# EAGLE library part ITG-3200 (library Sensor)
Digital-output, 3-axis MEMS gyro IC Manufacturer's datasheet <https://www.invensense.com/wp-content/uploads/2015/02/ITG-3200-Datasheet.pdf>
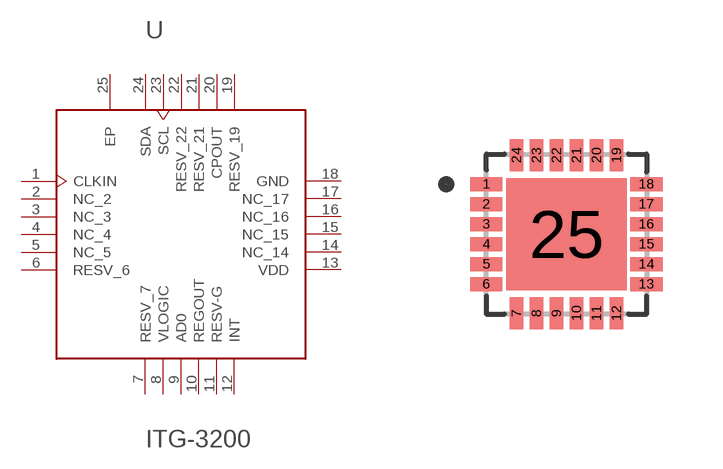
[diagram p5: symbol with the pads of QFN-24; footprint QFN-24]

Designator prefix U

## ITG-3200 (CREATED_BY: PCBLayout.com; MPN: ITG-3200; PACKAGE: QFN-24)  [QFN-24]
1  CLKIN  in
2  NC_2  pas
3  NC_3  pas
4  NC_4  pas
5  NC_5  pas
6  RESV_6  pas
7  RESV_7
8  VLOGIC
9  AD0  pas
10  REGOUT  pas
11  RESV-G  pas
12  INT  out
13  VDD  pwr
14  NC_14  pas
15  NC_15  pas
16  NC_16  pas
17  NC_17  pas
18  GND  pwr
19  RESV_19  pas
20  CPOUT  pas
21  RESV_21  pas
22  RESV_22  pas
23  SCL  pas
24  SDA  pas
25  EP  pwr

## Footprint QFN-24 (pad centres in mm)
smd 0.8 x 0.35: 1 -2,1.25; 2 -2,0.75; 3 -2,0.25; 4 -2,-0.25; 5 -2,-0.75; 6 -2,-1.25; 13 2,-1.25; 14 2,-0.75; 15 2,-0.25; 16 2,0.25; 17 2,0.75; 18 2,1.25
smd 0.35 x 0.8: 7 -1.25,-1.975; 8 -0.75,-1.975; 9 -0.25,-1.975; 10 0.25,-1.975; 11 0.75,-1.975; 12 1.25,-1.975; 19 1.25,1.975; 20 0.75,1.975; 21 0.25,1.975; 22 -0.25,1.975; 23 -0.75,1.975; 24 -1.25,1.975
smd 3 x 2.8: 25 0,0